# Altium schematic symbol library Res_Panasonic_ERJ-P06J8R2V_8.2Ohms.SchLib: 1 symbol
Pins are listed as number, name and electrical type; pins without a type are passive.

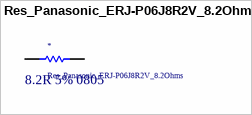
[diagram p0: symbol Res_Panasonic_ERJ-P06J8R2V_8.2Ohms]

## Res_Panasonic_ERJ-P06J8R2V_8.2Ohms
designator *  Resistance: 8.2R 5% 0805
RES SMD 8.2 OHM 5% 1/4W 0805; Supplier 1: Mouser; Supplier Part Number 1: 667-ERJ-P06J8R2V
pins: 1, 2